# Altium schematic symbol library Schlib1.SchLib: 60 symbols
Pins are listed as number, name and electrical type; pins without a type are passive.

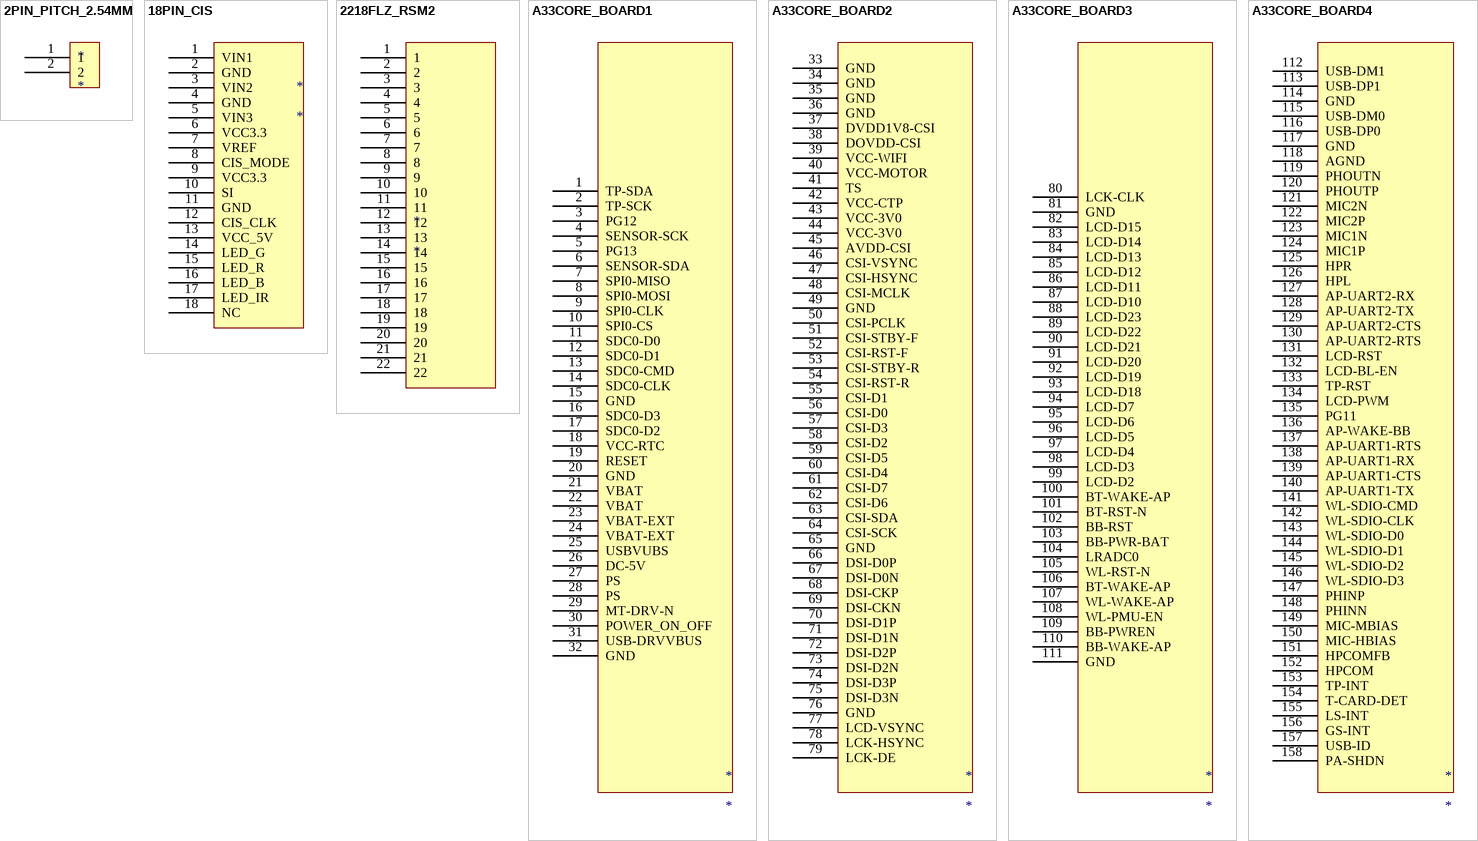
[diagram p0: symbols 2PIN_PITCH_2.54MM to A33CORE_BOARD4]

## 2PIN_PITCH_2.54MM
designator *
footprint 2PIN_PITCH_2.54MM
pins: 1, 2

## 18PIN_CIS
designator *
footprint 18PIN_FPC
pins: 1 VIN1, 2 GND, 3 VIN2, 4 GND, 5 VIN3, 6 VCC3.3, 7 VREF, 8 CIS_MODE, 9 VCC3.3, 10 SI, 11 GND, 12 CIS_CLK, 13 VCC_5V, 14 LED_G, 15 LED_R, 16 LED_B, 17 LED_IR, 18 NC

## 2218FLZ_RSM2
designator *
footprint 2218FLZ_RSM2
pins: 1, 2, 3, 4, 5, 6, 7, 8, 9, 10, 11, 12, 13, 14, 15, 16, 17, 18, 19, 20, 21, 22

## A33CORE_BOARD1
designator *
footprint A33CORE_BOARD1
pins: 1 TP-SDA, 2 TP-SCK, 3 PG12, 4 SENSOR-SCK, 5 PG13, 6 SENSOR-SDA, 7 SPI0-MISO, 8 SPI0-MOSI, 9 SPI0-CLK, 10 SPI0-CS, 11 SDC0-D0, 12 SDC0-D1, 13 SDC0-CMD, 14 SDC0-CLK, 15 GND, 16 SDC0-D3, 17 SDC0-D2, 18 VCC-RTC, 19 RESET, 20 GND, 21 VBAT, 22 VBAT, 23 VBAT-EXT, 24 VBAT-EXT, 25 USBVUBS, 26 DC-5V, 27 PS, 28 PS, 29 MT-DRV-N, 30 POWER_ON_OFF, 31 USB-DRVVBUS, 32 GND

## A33CORE_BOARD2
designator *
footprint A33CORE_BOARD2
pins: 33 GND, 34 GND, 35 GND, 36 GND, 37 DVDD1V8-CSI, 38 DOVDD-CSI, 39 VCC-WIFI, 40 VCC-MOTOR, 41 TS, 42 VCC-CTP, 43 VCC-3V0, 44 VCC-3V0, 45 AVDD-CSI, 46 CSI-VSYNC, 47 CSI-HSYNC, 48 CSI-MCLK, 49 GND, 50 CSI-PCLK, 51 CSI-STBY-F, 52 CSI-RST-F, 53 CSI-STBY-R, 54 CSI-RST-R, 55 CSI-D1, 56 CSI-D0, 57 CSI-D3, 58 CSI-D2, 59 CSI-D5, 60 CSI-D4, 61 CSI-D7, 62 CSI-D6, 63 CSI-SDA, 64 CSI-SCK, 65 GND, 66 DSI-D0P, 67 DSI-D0N, 68 DSI-CKP, 69 DSI-CKN, 70 DSI-D1P, 71 DSI-D1N, 72 DSI-D2P, 73 DSI-D2N, 74 DSI-D3P, 75 DSI-D3N, 76 GND, 77 LCD-VSYNC, 78 LCK-HSYNC, 79 LCK-DE

## A33CORE_BOARD3
designator *
footprint A33CORE_BOARD3
pins: 80 LCK-CLK, 81 GND, 82 LCD-D15, 83 LCD-D14, 84 LCD-D13, 85 LCD-D12, 86 LCD-D11, 87 LCD-D10, 88 LCD-D23, 89 LCD-D22, 90 LCD-D21, 91 LCD-D20, 92 LCD-D19, 93 LCD-D18, 94 LCD-D7, 95 LCD-D6, 96 LCD-D5, 97 LCD-D4, 98 LCD-D3, 99 LCD-D2, 100 BT-WAKE-AP, 101 BT-RST-N, 102 BB-RST, 103 BB-PWR-BAT, 104 LRADC0, 105 WL-RST-N, 106 BT-WAKE-AP, 107 WL-WAKE-AP, 108 WL-PMU-EN, 109 BB-PWREN, 110 BB-WAKE-AP, 111 GND

## A33CORE_BOARD4
designator *
footprint A33CORE_BOARD4
pins: 112 USB-DM1, 113 USB-DP1, 114 GND, 115 USB-DM0, 116 USB-DP0, 117 GND, 118 AGND, 119 PHOUTN, 120 PHOUTP, 121 MIC2N, 122 MIC2P, 123 MIC1N, 124 MIC1P, 125 HPR, 126 HPL, 127 AP-UART2-RX, 128 AP-UART2-TX, 129 AP-UART2-CTS, 130 AP-UART2-RTS, 131 LCD-RST, 132 LCD-BL-EN, 133 TP-RST, 134 LCD-PWM, 135 PG11, 136 AP-WAKE-BB, 137 AP-UART1-RTS, 138 AP-UART1-RX, 139 AP-UART1-CTS, 140 AP-UART1-TX, 141 WL-SDIO-CMD, 142 WL-SDIO-CLK, 143 WL-SDIO-D0, 144 WL-SDIO-D1, 145 WL-SDIO-D2, 146 WL-SDIO-D3, 147 PHINP, 148 PHINN, 149 MIC-MBIAS, 150 MIC-HBIAS, 151 HPCOMFB, 152 HPCOM, 153 TP-INT, 154 T-CARD-DET, 155 LS-INT, 156 GS-INT, 157 USB-ID, 158 PA-SHDN

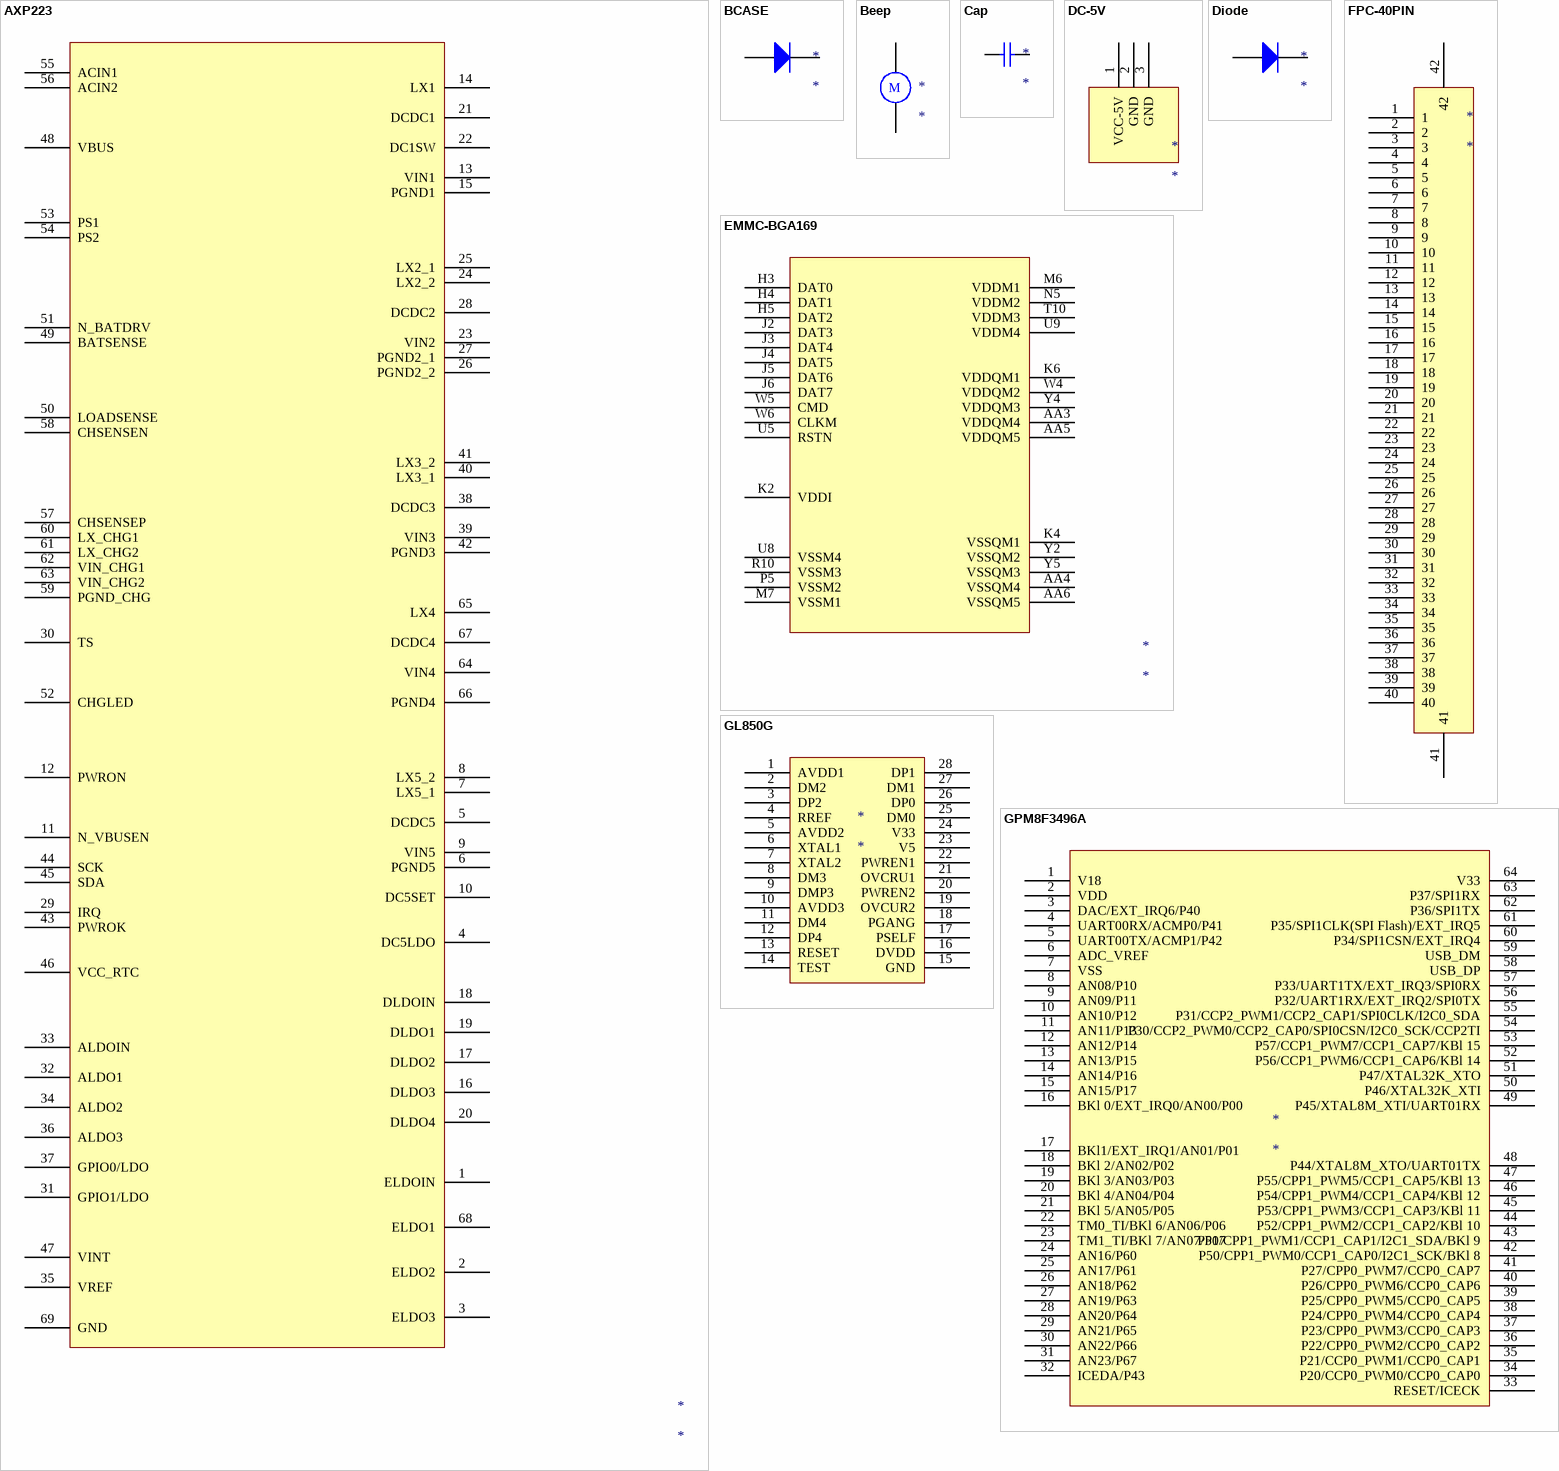
[diagram p1: symbols AXP223 to GPM8F3496A]

## AXP223
designator *
footprint AXP223
pins: 1 ELDOIN, 2 ELDO2, 3 ELDO3, 4 DC5LDO, 5 DCDC5, 6 PGND5, 7 LX5_1, 8 LX5_2, 9 VIN5, 10 DC5SET, 11 N_VBUSEN, 12 PWRON, 13 VIN1, 14 LX1, 15 PGND1, 16 DLDO3, 17 DLDO2, 18 DLDOIN, 19 DLDO1, 20 DLDO4, 21 DCDC1, 22 DC1SW, 23 VIN2, 24 LX2_2, 25 LX2_1, 26 PGND2_2, 27 PGND2_1, 28 DCDC2, 29 IRQ, 30 TS, 31 GPIO1/LDO, 32 ALDO1, 33 ALDOIN, 34 ALDO2, 35 VREF, 36 ALDO3, 37 GPIO0/LDO, 38 DCDC3, 39 VIN3, 40 LX3_1, 41 LX3_2, 42 PGND3, 43 PWROK, 44 SCK, 45 SDA, 46 VCC_RTC, 47 VINT, 48 VBUS, 49 BATSENSE, 50 LOADSENSE, 51 N_BATDRV, 52 CHGLED, 53 PS1, 54 PS2, 55 ACIN1, 56 ACIN2, 57 CHSENSEP, 58 CHSENSEN, 59 PGND_CHG, 60 LX_CHG1, 61 LX_CHG2, 62 VIN_CHG1, 63 VIN_CHG2, 64 VIN4, 65 LX4, 66 PGND4, 67 DCDC4, 68 ELDO1, 69 GND

## BCASE
designator *
footprint BCASE
pins: 1 A, 2 K

## Beep
designator *
footprint Beep
pins: 1, 2
text: M

## Cap
designator *
footprint C0402 (CAP)
footprint C0603
footprint C0805
footprint C1206
footprint 3126A
footprint 1210
footprint 电解电容5*8
footprint 电解电容6*12
footprint 电解电容8*13
pins: 1, 2

## DC-5V
designator *
footprint DC-5V
pins: 1 VCC-5V, 2 GND, 3 GND

## Diode
designator *
footprint 0603A
pins: 1 A, 2 K

## EMMC-BGA169
designator *
footprint EMMC_BGA169
pins: AA3 VDDQM4, AA4 VSSQM4, AA5 VDDQM5, AA6 VSSQM5, H3 DAT0, H4 DAT1, H5 DAT2, J2 DAT3, J3 DAT4, J4 DAT5, J5 DAT6, J6 DAT7, K2 VDDI, K4 VSSQM1, K6 VDDQM1, M6 VDDM1, M7 VSSM1, N5 VDDM2, P5 VSSM2, R10 VSSM3, T10 VDDM3, U5 RSTN, U8 VSSM4, U9 VDDM4, W4 VDDQM2, W5 CMD, W6 CLKM, Y2 VSSQM2, Y4 VDDQM3, Y5 VSSQM3

## FPC-40PIN
designator *
footprint FPC-40PIN
pins: 1, 2, 3, 4, 5, 6, 7, 8, 9, 10, 11, 12, 13, 14, 15, 16, 17, 18, 19, 20, 21, 22, 23, 24, 25, 26, 27, 28, 29, 30, 31, 32, 33, 34, 35, 36, 37, 38, 39, 40, 41, 42

## GL850G
designator *
footprint GL850G (SSOP-28)
pins: 1 AVDD1, 2 DM2, 3 DP2, 4 RREF, 5 AVDD2, 6 XTAL1, 7 XTAL2, 8 DM3, 9 DMP3, 10 AVDD3, 11 DM4, 12 DP4, 13 RESET, 14 TEST, 15 GND, 16 DVDD, 17 PSELF, 18 PGANG, 19 OVCUR2, 20 PWREN2, 21 OVCRU1, 22 PWREN1, 23 V5, 24 V33, 25 DM0, 26 DP0, 27 DM1, 28 DP1

## GPM8F3496A
designator *
footprint GPM8F3496A LQFP64
pins: 1 V18, 2 VDD, 3 DAC/EXT_IRQ6/P40, 4 UART00RX/ACMP0/P41, 5 UART00TX/ACMP1/P42, 6 ADC_VREF, 7 VSS, 8 AN08/P10, 9 AN09/P11, 10 AN10/P12, 11 AN11/P13, 12 AN12/P14, 13 AN13/P15, 14 AN14/P16, 15 AN15/P17, 16 BKl 0/EXT_IRQ0/AN00/P00, 17 BKl1/EXT_IRQ1/AN01/P01, 18 BKl 2/AN02/P02, 19 BKl 3/AN03/P03, 20 BKl 4/AN04/P04, 21 BKl 5/AN05/P05, 22 TM0_TI/BKl 6/AN06/P06, 23 TM1_TI/BKl 7/AN07/P07, 24 AN16/P60, 25 AN17/P61, 26 AN18/P62, 27 AN19/P63, 28 AN20/P64, 29 AN21/P65, 30 AN22/P66, 31 AN23/P67, 32 ICEDA/P43, 33 RESET/ICECK, 34 P20/CCP0_PWM0/CCP0_CAP0, 35 P21/CCP0_PWM1/CCP0_CAP1, 36 P22/CPP0_PWM2/CCP0_CAP2, 37 P23/CPP0_PWM3/CCP0_CAP3, 38 P24/CPP0_PWM4/CCP0_CAP4, 39 P25/CPP0_PWM5/CCP0_CAP5, 40 P26/CPP0_PWM6/CCP0_CAP6, 41 P27/CPP0_PWM7/CCP0_CAP7, 42 P50/CPP1_PWM0/CCP1_CAP0/I2C1_SCK/BKl 8, 43 P51/CPP1_PWM1/CCP1_CAP1/I2C1_SDA/BKl 9, 44 P52/CPP1_PWM2/CCP1_CAP2/KBl 10, 45 P53/CPP1_PWM3/CCP1_CAP3/KBl 11, 46 P54/CPP1_PWM4/CCP1_CAP4/KBl 12, 47 P55/CPP1_PWM5/CCP1_CAP5/KBl 13, 48 P44/XTAL8M_XTO/UART01TX, 49 P45/XTAL8M_XTI/UART01RX, 50 P46/XTAL32K_XTI, 51 P47/XTAL32K_XTO, 52 P56/CCP1_PWM6/CCP1_CAP6/KBl 14, 53 P57/CCP1_PWM7/CCP1_CAP7/KBl 15, 54 P30/CCP2_PWM0/CCP2_CAP0/SPI0CSN/I2C0_SCK/CCP2TI, 55 P31/CCP2_PWM1/CCP2_CAP1/SPI0CLK/I2C0_SDA, 56 P32/UART1RX/EXT_IRQ2/SPI0TX, 57 P33/UART1TX/EXT_IRQ3/SPI0RX, 58 USB_DP, 59 USB_DM, 60 P34/SPI1CSN/EXT_IRQ4, 61 P35/SPI1CLK(SPI Flash)/EXT_IRQ5, 62 P36/SPI1TX, 63 P37/SPI1RX, 64 V33

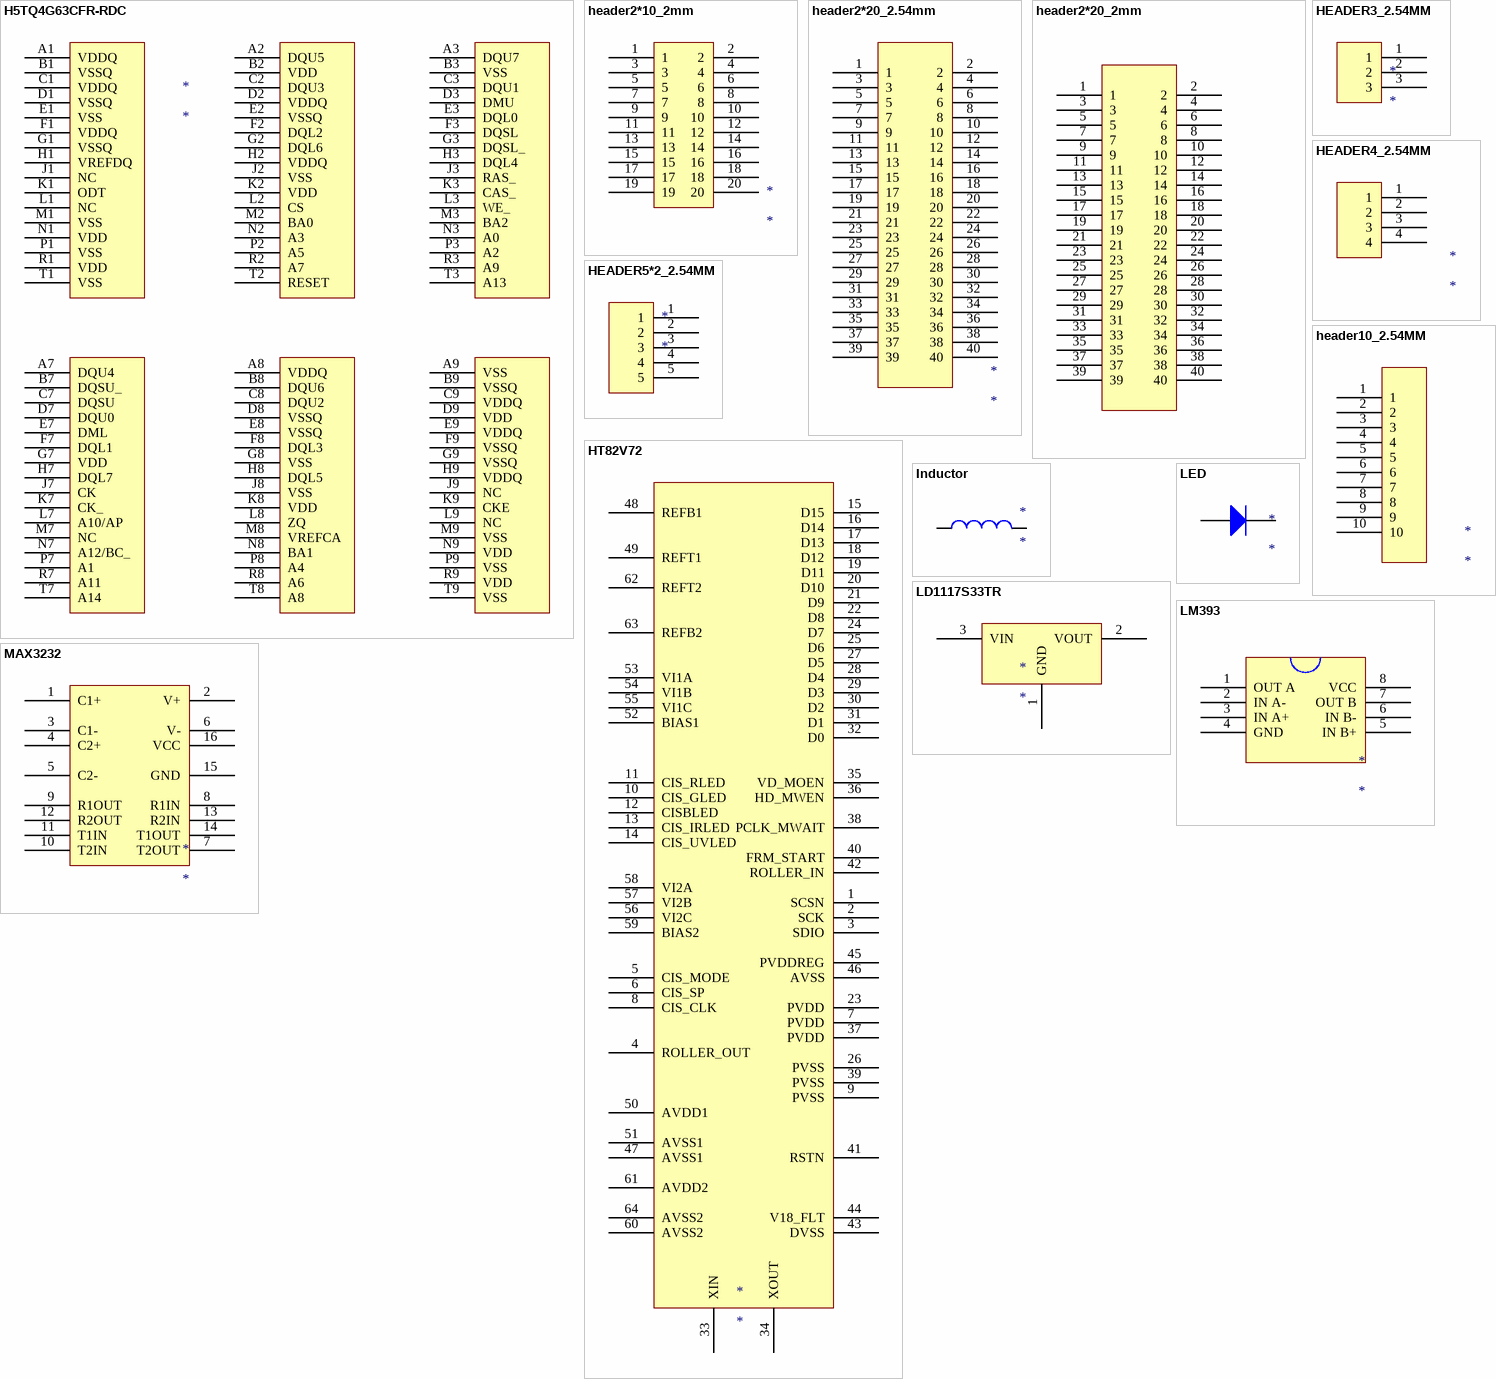
[diagram p2: symbols H5TQ4G63CFR-RDC to MAX3232]

## H5TQ4G63CFR-RDC
designator *
footprint DDR3-FBGA96
pins: A1 VDDQ, A2 DQU5, A3 DQU7, A7 DQU4, A8 VDDQ, A9 VSS, B1 VSSQ, B2 VDD, B3 VSS, B7 DQSU_, B8 DQU6, B9 VSSQ, C1 VDDQ, C2 DQU3, C3 DQU1, C7 DQSU, C8 DQU2, C9 VDDQ, D1 VSSQ, D2 VDDQ, D3 DMU, D7 DQU0, D8 VSSQ, D9 VDD, E1 VSS, E2 VSSQ, E3 DQL0, E7 DML, E8 VSSQ, E9 VDDQ, F1 VDDQ, F2 DQL2, F3 DQSL, F7 DQL1, F8 DQL3, F9 VSSQ, G1 VSSQ, G2 DQL6, G3 DQSL_, G7 VDD, G8 VSS, G9 VSSQ, H1 VREFDQ, H2 VDDQ, H3 DQL4, H7 DQL7, H8 DQL5, H9 VDDQ, J1 NC, J2 VSS, J3 RAS_, J7 CK, J8 VSS, J9 NC, K1 ODT, K2 VDD, K3 CAS_, K7 CK_, K8 VDD, K9 CKE, L1 NC, L2 CS, L3 WE_, L7 A10/AP, L8 ZQ, L9 NC, M1 VSS, M2 BA0, M3 BA2, M7 NC, M8 VREFCA, M9 VSS, N1 VDD, N2 A3, N3 A0, N7 A12/BC_, N8 BA1, N9 VDD, P1 VSS, P2 A5, P3 A2, P7 A1, P8 A4, P9 VSS, R1 VDD, R2 A7, R3 A9, R7 A11, R8 A6, R9 VDD, T1 VSS, T2 RESET, T3 A13, T7 A14, T8 A8, T9 VSS

## header2*10_2mm
designator *
footprint header2*10_2mm (header)
pins: 1, 2, 3, 4, 5, 6, 7, 8, 9, 10, 11, 12, 13, 14, 15, 16, 17, 18, 19, 20

## header2*20_2.54mm
designator *
footprint header2*20_2.54mm
pins: 1, 2, 3, 4, 5, 6, 7, 8, 9, 10, 11, 12, 13, 14, 15, 16, 17, 18, 19, 20, 21, 22, 23, 24, 25, 26, 27, 28, 29, 30, 31, 32, 33, 34, 35, 36, 37, 38, 39, 40

## header2*20_2mm
designator *
footprint header2*20_2mm
pins: 1, 2, 3, 4, 5, 6, 7, 8, 9, 10, 11, 12, 13, 14, 15, 16, 17, 18, 19, 20, 21, 22, 23, 24, 25, 26, 27, 28, 29, 30, 31, 32, 33, 34, 35, 36, 37, 38, 39, 40

## HEADER3_2.54MM
designator *
footprint HEADER3_2.54MM
pins: 1, 2, 3

## HEADER4_2.54MM
designator *
footprint HEADER4_2.54MM
pins: 1, 2, 3, 4

## HEADER5*2_2.54MM
designator *
footprint HEADER5_2.54MM
pins: 1, 2, 3, 4, 5

## header10_2.54MM
designator *
footprint HEADER10_2.54MM
pins: 1, 2, 3, 4, 5, 6, 7, 8, 9, 10

## HT82V72
designator *
footprint HT82V72
pins: 1 SCSN, 2 SCK, 3 SDIO, 4 ROLLER_OUT, 5 CIS_MODE, 6 CIS_SP, 7 PVDD, 8 CIS_CLK, 9 PVSS, 10 CIS_GLED, 11 CIS_RLED, 12 CISBLED, 13 CIS_IRLED, 14 CIS_UVLED, 15 D15, 16 D14, 17 D13, 18 D12, 19 D11, 20 D10, 21 D9, 22 D8, 23 PVDD, 24 D7, 25 D6, 26 PVSS, 27 D5, 28 D4, 29 D3, 30 D2, 31 D1, 32 D0, 33 XIN, 34 XOUT, 35 VD_MOEN, 36 HD_MWEN, 37 PVDD, 38 PCLK_MWAIT, 39 PVSS, 40 FRM_START, 41 RSTN, 42 ROLLER_IN, 43 DVSS, 44 V18_FLT, 45 PVDDREG, 46 AVSS, 47 AVSS1, 48 REFB1, 49 REFT1, 50 AVDD1, 51 AVSS1, 52 BIAS1, 53 VI1A, 54 VI1B, 55 VI1C, 56 VI2C, 57 VI2B, 58 VI2A, 59 BIAS2, 60 AVSS2, 61 AVDD2, 62 REFT2, 63 REFB2, 64 AVSS2

## Inductor
designator *
footprint NR4018
pins: 1, 2

## LD1117S33TR
designator *
SOT-223
footprint LD1117S33TR (SOT-223)
pins: 1 GND, 2 VOUT, 3 VIN

## LED
designator *
footprint LED_0603
pins: 1 A, 2 K

## LM393
designator *
footprint LM393
pins: 1 OUT A, 2 IN A-, 3 IN A+, 4 GND, 5 IN B+, 6 IN B-, 7 OUT B, 8 VCC

## MAX3232
designator *
pins: 1 C1+, 2 V+, 3 C1-, 4 C2+, 5 C2-, 6 V-, 7 T2OUT, 8 R1IN, 9 R1OUT, 10 T2IN, 11 T1IN, 12 R2OUT, 13 R2IN, 14 T1OUT, 15 GND, 16 VCC

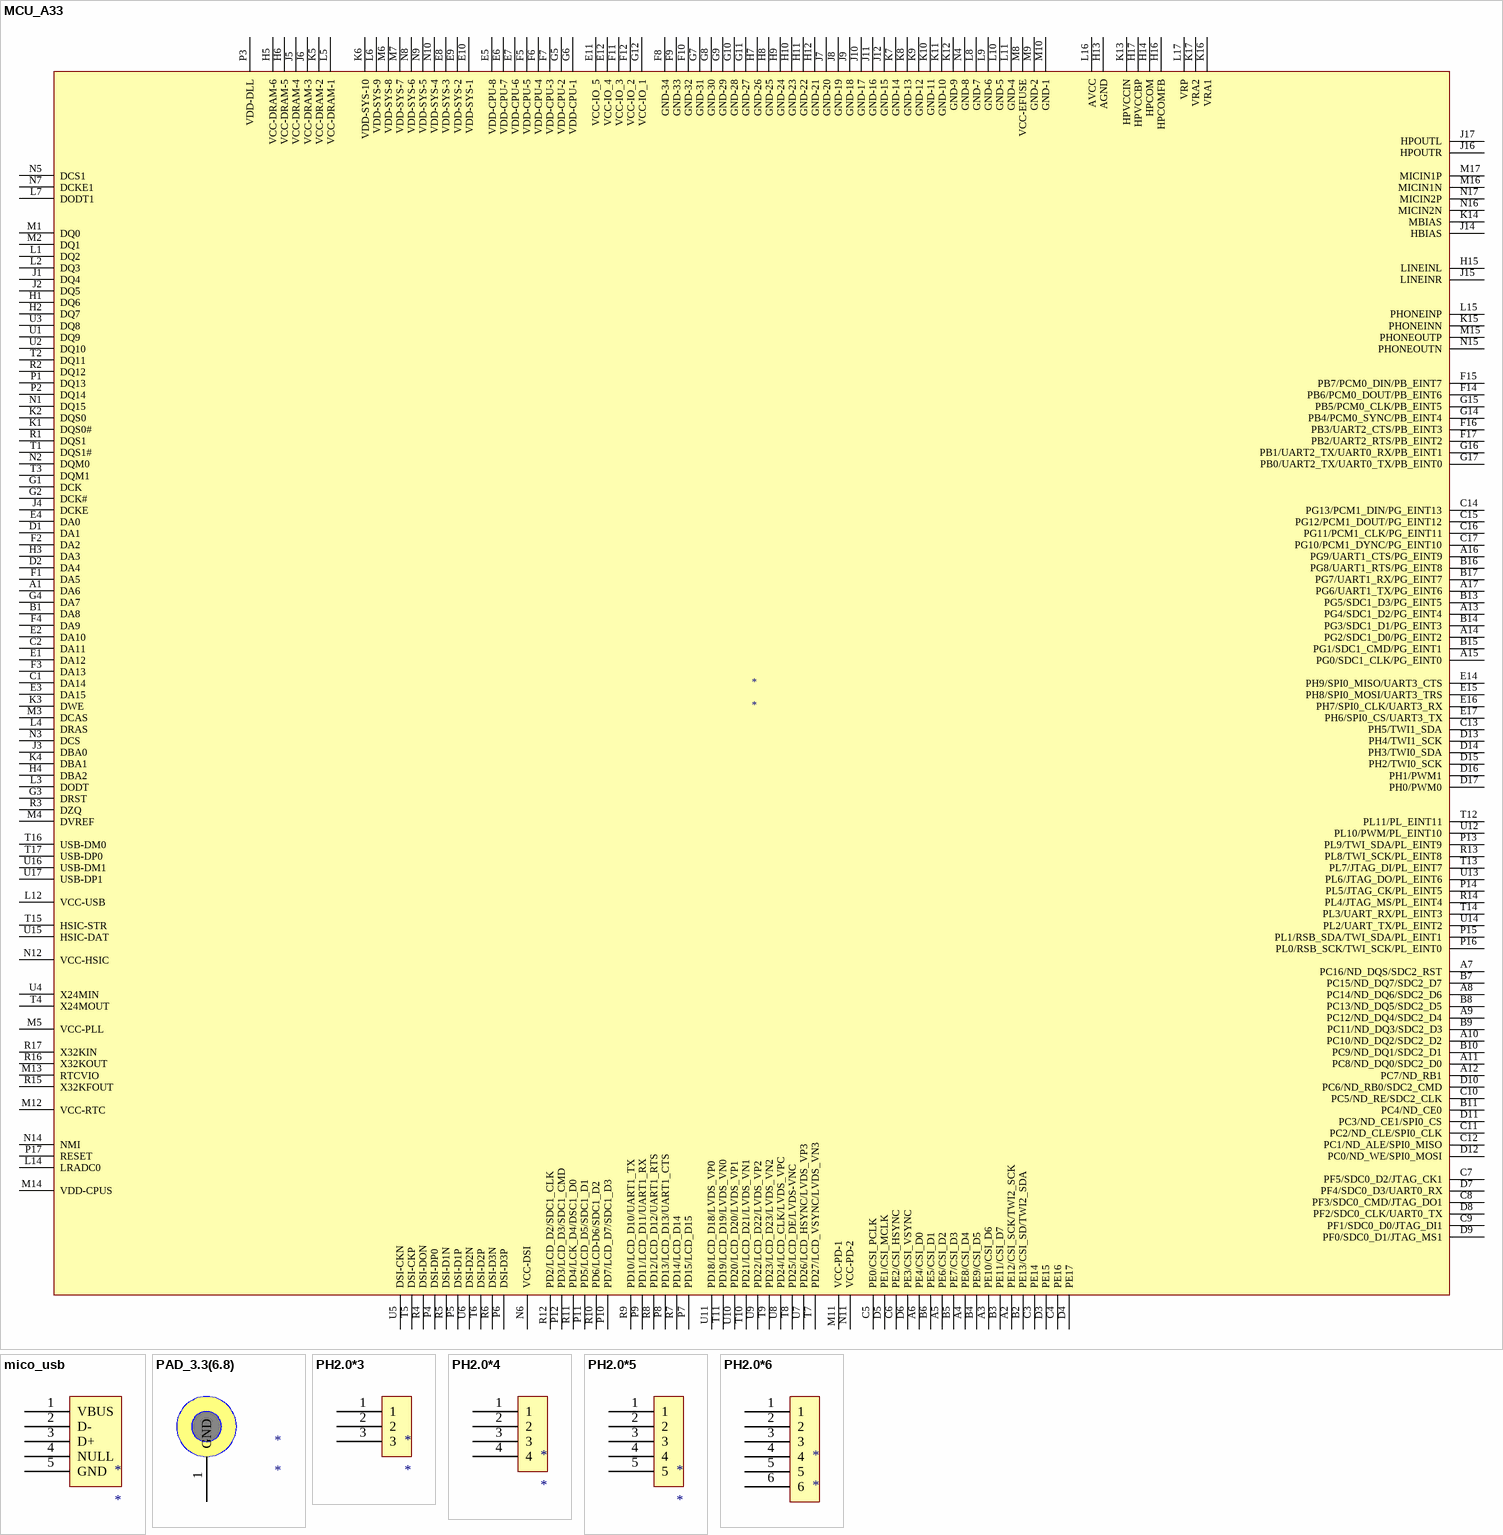
[diagram p3: symbols MCU_A33 to PH2.0*6]

## MCU_A33
designator *
footprint MCU_A33
pins: A1 DA6, A2 PE12/CSI_SCK/TWI2_SCK, A3 PE10/CSI_D6, A4 PE8/CSI_D4, A5 PE6/CSI_D2, A6 PE4/CSI_D0, A7 PC16/ND_DQS/SDC2_RST, A8 PC14/ND_DQ6/SDC2_D6, A9 PC12/ND_DQ4/SDC2_D4, A10 PC10/ND_DQ2/SDC2_D2, A11 PC8/ND_DQ0/SDC2_D0, A12 PC7/ND_RB1, A13 PG4/SDC1_D2/PG_EINT4, A14 PG2/SDC1_D0/PG_EINT2, A15 PG0/SDC1_CLK/PG_EINT0, A16 PG9/UART1_CTS/PG_EINT9, A17 PG6/UART1_TX/PG_EINT6, B1 DA8, B2 PE13/CSI_SD/TWI2_SDA, B3 PE11/CSI_D7, B4 PE9/CSI_D5, B5 PE7/CSI_D3, B6 PE5/CSI_D1, B7 PC15/ND_DQ7/SDC2_D7, B8 PC13/ND_DQ5/SDC2_D5, B9 PC11/ND_DQ3/SDC2_D3, B10 PC9/ND_DQ1/SDC2_D1, B11 PC4/ND_CE0, B13 PG5/SDC1_D3/PG_EINT5, B14 PG3/SDC1_D1/PG_EINT3, B15 PG1/SDC1_CMD/PG_EINT1, B16 PG8/UART1_RTS/PG_EINT8, B17 PG7/UART1_RX/PG_EINT7, C1 DA14, C2 DA11, C3 PE14, C4 PE16, C5 PE0/CSI_PCLK, C6 PE2/CSI_HSYNC, C7 PF5/SDC0_D2/JTAG_CK1, C8 PF3/SDC0_CMD/JTAG_DO1, C9 PF1/SDC0_D0/JTAG_DI1, C10 PC5/ND_RE/SDC2_CLK, C11 PC2/ND_CLE/SPI0_CLK, C12 PC1/ND_ALE/SPI0_MISO, C13 PH5/TWI1_SDA, C14 PG13/PCM1_DIN/PG_EINT13, C15 PG12/PCM1_DOUT/PG_EINT12, C16 PG11/PCM1_CLK/PG_EINT11, C17 PG10/PCM1_DYNC/PG_EINT10, D1 DA1, D2 DA4, D3 PE15, D4 PE17, D5 PE1/CSI_MCLK, D6 PE3/CSI_VSYNC, D7 PF4/SDC0_D3/UART0_RX, D8 PF2/SDC0_CLK/UART0_TX, D9 PF0/SDC0_D1/JTAG_MS1, D10 PC6/ND_RB0/SDC2_CMD, D11 PC3/ND_CE1/SPI0_CS, D12 PC0/ND_WE/SPI0_MOSI, D13 PH4/TWI1_SCK, D14 PH3/TWI0_SDA, D15 PH2/TWI0_SCK, D16 PH1/PWM1, D17 PH0/PWM0, E1 DA12, E2 DA10, E3 DA15, E4 DA0, E5 VDD-CPU-8, E6 VDD-CPU-7, E7 VDD-CPU-6, E8 VDD-SYS-3, E9 VDD-SYS-2, E10 VDD-SYS-1, E11 VCC-IO_5, E12 VCC-IO_4, E14 PH9/SPI0_MISO/UART3_CTS, E15 PH8/SPI0_MOSI/UART3_TRS, E16 PH7/SPI0_CLK/UART3_RX, E17 PH6/SPI0_CS/UART3_TX, F1 DA5, F2 DA2, F3 DA13, F4 DA9, F5 VDD-CPU-5, F6 VDD-CPU-4, F7 VDD-CPU-3, F8 GND-34, F9 GND-33, F10 GND-32, F11 VCC-IO_3, F12 VCC-IO_2, F14 PB6/PCM0_DOUT/PB_EINT6, F15 PB7/PCM0_DIN/PB_EINT7, F16 PB3/UART2_CTS/PB_EINT3, F17 PB2/UART2_RTS/PB_EINT2, G1 DCK, G2 DCK#, G3 DRST, G4 DA7, G5 VDD-CPU-2, G6 VDD-CPU-1, G7 GND-31, G8 GND-30, G9 GND-29, G10 GND-28, G11 GND-27, G12 VCC-IO_1, G14 PB4/PCM0_SYNC/PB_EINT4, G15 PB5/PCM0_CLK/PB_EINT5, G16 PB1/UART2_TX/UART0_RX/PB_EINT1, G17 PB0/UART2_TX/UART0_TX/PB_EINT0, H1 DQ6, H2 DQ7, H3 DA3, H4 DBA2, H5 VCC-DRAM-6, H6 VCC-DRAM-5, H7 GND-26, H8 GND-25, H9 GND-24, H10 GND-23, H11 GND-22, H12 GND-21, H13 AGND, H14 HPCOM, H15 LINEINL, H16 HPCOMFB, H17 HPVCCBP, J1 DQ4, J2 DQ5, J3 DBA0, J4 DCKE, J5 VCC-DRAM-4, J6 VCC-DRAM-3, J7 GND-20, J8 GND-19, J9 GND-18, J10 GND-17, J11 GND-16, J12 GND-15, J14 HBIAS, J15 LINEINR, J16 HPOUTR, J17 HPOUTL, K1 DQS0#, K2 DQS0, K3 DWE, K4 DBA1, K5 VCC-DRAM-2, K6 VDD-SYS-10, K7 GND-14, K8 GND-13, K9 GND-12, K10 GND-11, K11 GND-10, K12 GND-9, K13 HPVCCIN, K14 MBIAS, K15 PHONEINN, K16 VRA1, K17 VRA2, L1 DQ2, L2 DQ3, L3 DODT, L4 DRAS, L5 VCC-DRAM-1, L6 VDD-SYS-9, L7 DODT1, L8 GND-7, L9 GND-6, L10 GND-5, L11 GND-4, L12 VCC-USB, L14 LRADC0, L15 PHONEINP, L16 AVCC, L17 VRP, M1 DQ0, M2 DQ1, M3 DCAS, M4 DVREF, M5 VCC-PLL, M6 VDD-SYS-8, M7 VDD-SYS-7, M8 VCC-EFUSE, M9 GND-2, M10 GND-1, M11 VCC-PD-1, M12 VCC-RTC, M13 RTCVIO, M14 VDD-CPUS, M15 PHONEOUTP, M16 MICIN1N, M17 MICIN1P, N1 DQ15, N2 DQM0, N3 DCS, N4 GND-8, N5 DCS1, N6 VCC-DSI, N7 DCKE1, N8 VDD-SYS-6, N9 VDD-SYS-5, N10 VDD-SYS-4, N11 VCC-PD-2, N12 VCC-HSIC, N14 NMI, N15 PHONEOUTN, N16 MICIN2N, N17 MICIN2P, P1 DQ13, P2 DQ14, P3 VDD-DLL, P4 DSI-DP0, P5 DSI-D1P, P6 DSI-D3P, P7 PD15/LCD_D15, P8 PD13/LCD_D13/UART1_CTS, P9 PD11/LCD_D11/UART1_RX, P10 PD7/LCD_D7/SDC1_D3, P11 PD5/LCD_D5/SDC1_D1, P12 PD3/LCD_D3/SDC1_CMD, P13 PL9/TWI_SDA/PL_EINT9, P14 PL5/JTAG_CK/PL_EINT5, P15 PL1/RSB_SDA/TWI_SDA/PL_EINT1, P16 PL0/RSB_SCK/TWI_SCK/PL_EINT0, P17 RESET, R1 DQS1, R2 DQ12, R3 DZQ, R4 DSI-DON, R5 DSI-D1N, R6 DSI-D3N, R7 PD14/LCD_D14, R8 PD12/LCD_D12/UART1_RTS, R9 PD10/LCD_D10/UART1_TX, R10 PD6/LCD-D6/SDC1_D2, R11 PD4/LCK_D4/DSC1_D0, R12 PD2/LCD_D2/SDC1_CLK, R13 PL8/TWI_SCK/PL_EINT8, R14 PL4/JTAG_MS/PL_EINT4, R15 X32KFOUT, R16 X32KOUT, R17 X32KIN, T1 DQS1#, T2 DQ11, T3 DQM1, T4 X24MOUT, T5 DSI-CKP, T6 DSI-D2P, T7 PD27/LCD_VSYNC/LVDS_VN3, T8 PD25/LCD_DE/LVDS-VNC, T9 PD23/LCD_D23/LVDS_VN2, T10 PD21/LCD_D21/LVDS_VN1, T11 PD19/LCD_D19/LVDS_VN0, T12 PL11/PL_EINT11, T13 PL7/JTAG_DI/PL_EINT7, T14 PL3/UART_RX/PL_EINT3, T15 HSIC-STR, T16 USB-DM0, T17 USB-DP0, U1 DQ9, U2 DQ10, U3 DQ8, U4 X24MIN, U5 DSI-CKN, U6 DSI-D2N, U7 PD26/LCD_HSYNC/LVDS_VP3, U8 PD24/LCD_CLK/LVDS_VPC, U9 PD22/LCD_D22/LVDS_VP2, U10 PD20/LCD_D20/LVDS_VP1, U11 PD18/LCD_D18/LVDS_VP0, U12 PL10/PWM/PL_EINT10, U13 PL6/JTAG_DO/PL_EINT6, U14 PL2/UART_TX/PL_EINT2, U15 HSIC-DAT, U16 USB-DM1, U17 USB-DP1

## mico_usb
designator *
footprint mico_usb
pins: 1 VBUS, 2 D-, 3 D+, 4 NULL, 5 GND

## PAD_3.3(6.8)
designator *
footprint PAD_3.3(6.8)
pins: 1 GND

## PH2.0*3
designator *
footprint PH2.0*3
pins: 1, 2, 3

## PH2.0*4
designator *
footprint PH2.0*4
pins: 1, 2, 3, 4

## PH2.0*5
designator *
footprint PH2.0*5
pins: 1, 2, 3, 4, 5

## PH2.0*6
designator *
footprint PH2.0*6
pins: 1, 2, 3, 4, 5, 6

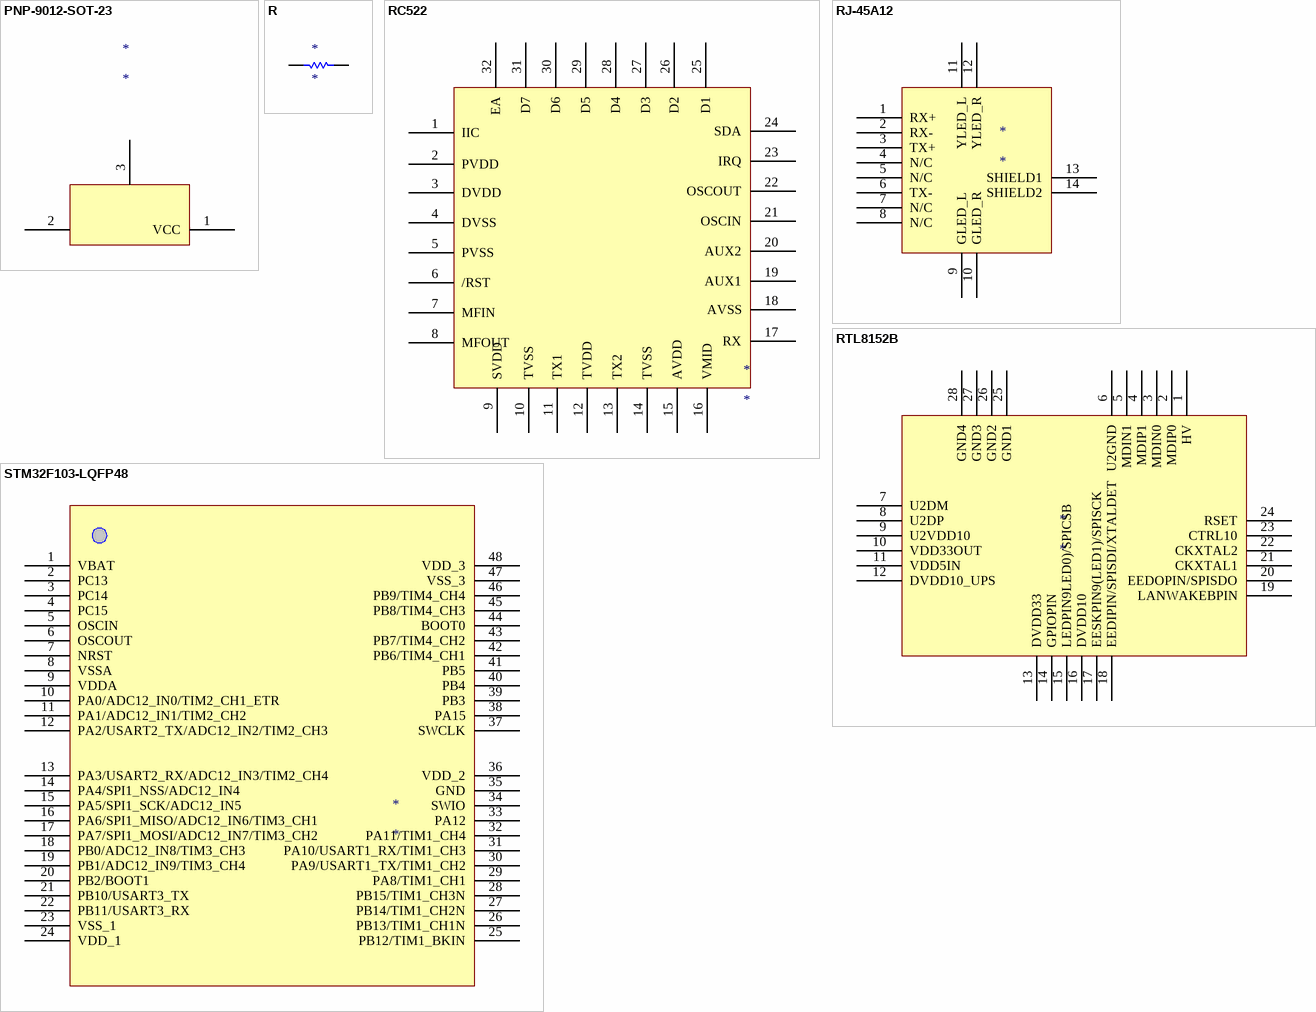
[diagram p4: symbols PNP-9012-SOT-23 to STM32F103-LQFP48]

## PNP-9012-SOT-23
designator *
footprint PNP-SOT-23
pins: 1 VCC, 2, 3

## R
designator *
footprint R0402
footprint R0603
footprint R1206
footprint 0603A
footprint 0603ABA
footprint 0603CA
footprint R0805
pins: 1, 2

## RC522
designator *
footprint HVQFN32
pins: 1 IIC, 2 PVDD, 3 DVDD, 4 DVSS, 5 PVSS, 6 /RST, 7 MFIN, 8 MFOUT, 9 SVDD, 10 TVSS, 11 TX1, 12 TVDD, 13 TX2, 14 TVSS, 15 AVDD, 16 VMID, 17 RX, 18 AVSS, 19 AUX1, 20 AUX2, 21 OSCIN, 22 OSCOUT, 23 IRQ, 24 SDA, 25 D1, 26 D2, 27 D3, 28 D4, 29 D5, 30 D6, 31 D7, 32 EA

## RJ-45A12
designator *
footprint RJ-45A12
pins: 1 RX+, 2 RX-, 3 TX+, 4 N/C, 5 N/C, 6 TX-, 7 N/C, 8 N/C, 9 GLED_L, 10 GLED_R, 11 YLED_L, 12 YLED_R, 13 SHIELD1, 14 SHIELD2

## RTL8152B
designator *
footprint RTL8723BS
pins: 1 HV, 2 MDIP0, 3 MDIN0, 4 MDIP1, 5 MDIN1, 6 U2GND, 7 U2DM, 8 U2DP, 9 U2VDD10, 10 VDD33OUT, 11 VDD5IN, 12 DVDD10_UPS, 13 DVDD33, 14 GPIOPIN, 15 LEDPIN9LED0)/SPICSB, 16 DVDD10, 17 EESKPIN9(LED1)/SPISCK, 18 EEDIPIN/SPISDI/XTALDET, 19 LANWAKEBPIN, 20 EEDOPIN/SPISDO, 21 CKXTAL1, 22 CKXTAL2, 23 CTRL10, 24 RSET, 25 GND1, 26 GND2, 27 GND3, 28 GND4

## STM32F103-LQFP48
designator *
footprint STM32F103_48P
pins: 1 VBAT, 2 PC13, 3 PC14, 4 PC15, 5 OSCIN, 6 OSCOUT, 7 NRST, 8 VSSA, 9 VDDA, 10 PA0/ADC12_IN0/TIM2_CH1_ETR, 11 PA1/ADC12_IN1/TIM2_CH2, 12 PA2/USART2_TX/ADC12_IN2/TIM2_CH3, 13 PA3/USART2_RX/ADC12_IN3/TIM2_CH4, 14 PA4/SPI1_NSS/ADC12_IN4, 15 PA5/SPI1_SCK/ADC12_IN5, 16 PA6/SPI1_MISO/ADC12_IN6/TIM3_CH1, 17 PA7/SPI1_MOSI/ADC12_IN7/TIM3_CH2, 18 PB0/ADC12_IN8/TIM3_CH3, 19 PB1/ADC12_IN9/TIM3_CH4, 20 PB2/BOOT1, 21 PB10/USART3_TX, 22 PB11/USART3_RX, 23 VSS_1, 24 VDD_1, 25 PB12/TIM1_BKIN, 26 PB13/TIM1_CH1N, 27 PB14/TIM1_CH2N, 28 PB15/TIM1_CH3N, 29 PA8/TIM1_CH1, 30 PA9/USART1_TX/TIM1_CH2, 31 PA10/USART1_RX/TIM1_CH3, 32 PA11/TIM1_CH4, 33 PA12, 34 SWIO, 35 GND, 36 VDD_2, 37 SWCLK, 38 PA15, 39 PB3, 40 PB4, 41 PB5, 42 PB6/TIM4_CH1, 43 PB7/TIM4_CH2, 44 BOOT0, 45 PB8/TIM4_CH3, 46 PB9/TIM4_CH4, 47 VSS_3, 48 VDD_3

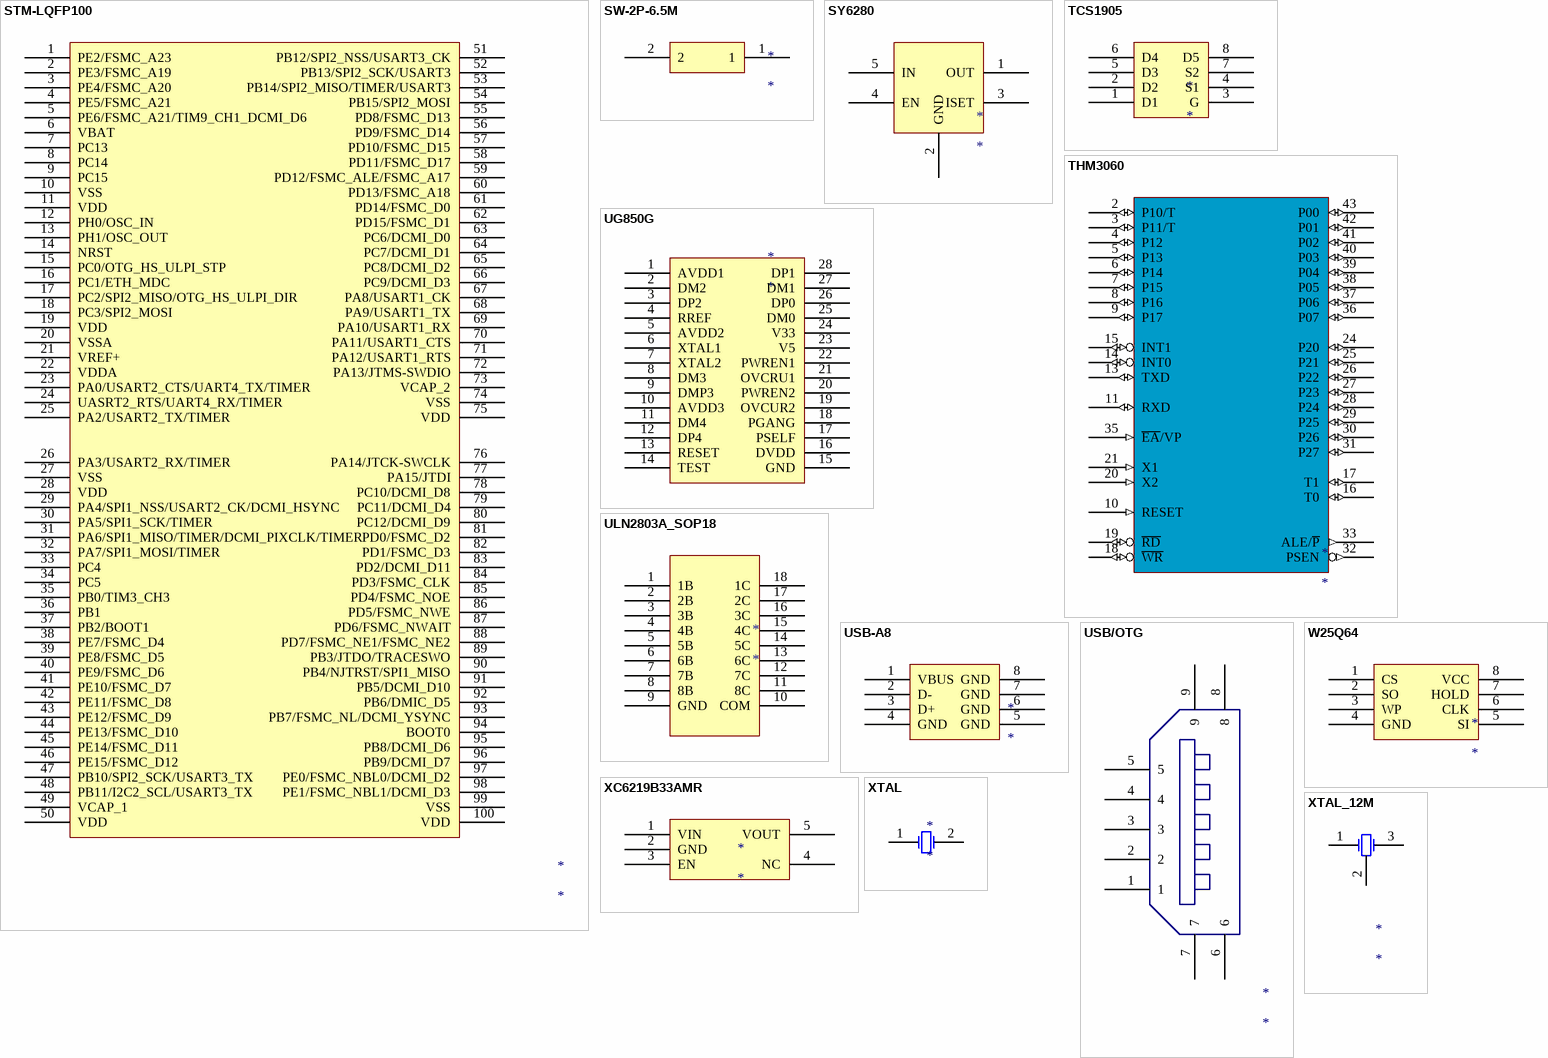
[diagram p5: symbols STM-LQFP100 to XTAL_12M]

## STM-LQFP100
designator *
footprint STM-LQFP100_N (Thin QFP, 100-Leads, Body 14x14mm, Pitch 0.5mm, IPC Medium Density)
pins: 1 PE2/FSMC_A23, 2 PE3/FSMC_A19, 3 PE4/FSMC_A20, 4 PE5/FSMC_A21, 5 PE6/FSMC_A21/TIM9_CH1_DCMI_D6, 6 VBAT, 7 PC13, 8 PC14, 9 PC15, 10 VSS, 11 VDD, 12 PH0/OSC_IN, 13 PH1/OSC_OUT, 14 NRST, 15 PC0/OTG_HS_ULPI_STP, 16 PC1/ETH_MDC, 17 PC2/SPI2_MISO/OTG_HS_ULPI_DIR, 18 PC3/SPI2_MOSI, 19 VDD, 20 VSSA, 21 VREF+, 22 VDDA, 23 PA0/USART2_CTS/UART4_TX/TIMER, 24 UASRT2_RTS/UART4_RX/TIMER, 25 PA2/USART2_TX/TIMER, 26 PA3/USART2_RX/TIMER, 27 VSS, 28 VDD, 29 PA4/SPI1_NSS/USART2_CK/DCMI_HSYNC, 30 PA5/SPI1_SCK/TIMER, 31 PA6/SPI1_MISO/TIMER/DCMI_PIXCLK/TIMER, 32 PA7/SPI1_MOSI/TIMER, 33 PC4, 34 PC5, 35 PB0/TIM3_CH3, 36 PB1, 37 PB2/BOOT1, 38 PE7/FSMC_D4, 39 PE8/FSMC_D5, 40 PE9/FSMC_D6, 41 PE10/FSMC_D7, 42 PE11/FSMC_D8, 43 PE12/FSMC_D9, 44 PE13/FSMC_D10, 45 PE14/FSMC_D11, 46 PE15/FSMC_D12, 47 PB10/SPI2_SCK/USART3_TX, 48 PB11/I2C2_SCL/USART3_TX, 49 VCAP_1, 50 VDD, 51 PB12/SPI2_NSS/USART3_CK, 52 PB13/SPI2_SCK/USART3, 53 PB14/SPI2_MISO/TIMER/USART3, 54 PB15/SPI2_MOSI, 55 PD8/FSMC_D13, 56 PD9/FSMC_D14, 57 PD10/FSMC_D15, 58 PD11/FSMC_D17, 59 PD12/FSMC_ALE/FSMC_A17, 60 PD13/FSMC_A18, 61 PD14/FSMC_D0, 62 PD15/FSMC_D1, 63 PC6/DCMI_D0, 64 PC7/DCMI_D1, 65 PC8/DCMI_D2, 66 PC9/DCMI_D3, 67 PA8/USART1_CK, 68 PA9/USART1_TX, 69 PA10/USART1_RX, 70 PA11/USART1_CTS, 71 PA12/USART1_RTS, 72 PA13/JTMS-SWDIO, 73 VCAP_2, 74 VSS, 75 VDD, 76 PA14/JTCK-SWCLK, 77 PA15/JTDI, 78 PC10/DCMI_D8, 79 PC11/DCMI_D4, 80 PC12/DCMI_D9, 81 PD0/FSMC_D2, 82 PD1/FSMC_D3, 83 PD2/DCMI_D11, 84 PD3/FSMC_CLK, 85 PD4/FSMC_NOE, 86 PD5/FSMC_NWE, 87 PD6/FSMC_NWAIT, 88 PD7/FSMC_NE1/FSMC_NE2, 89 PB3/JTDO/TRACESWO, 90 PB4/NJTRST/SPI1_MISO, 91 PB5/DCMI_D10, 92 PB6/DMIC_D5, 93 PB7/FSMC_NL/DCMI_YSYNC, 94 BOOT0, 95 PB8/DCMI_D6, 96 PB9/DCMI_D7, 97 PE0/FSMC_NBL0/DCMI_D2, 98 PE1/FSMC_NBL1/DCMI_D3, 99 VSS, 100 VDD

## SW-2P-6.5M
designator *
footprint SWSW-2P-6.5M
pins: 1, 2

## SY6280
designator *
footprint SOT-25 (SY6280)
pins: 1 OUT, 2 GND, 3 ISET, 4 EN, 5 IN

## TCS1905
designator *
footprint DFNWB2-6L
pins: 1 D1, 2 D2, 3 G, 4 S1, 5 D3, 6 D4, 7 S2, 8 D5

## THM3060
designator *
pins: 2 P10/T (io), 3 P11/T (io), 4 P12 (io), 5 P13 (io), 6 P14 (io), 7 P15 (io), 8 P16 (io), 9 P17 (io), 10 RESET (in), 11 RXD (io), 13 TXD (io), 14 INT0 (io), 15 INT1 (io), 16 T0 (io), 17 T1 (io), 18 ~{WR} (io), 19 ~{RD} (io), 20 X2 (in), 21 X1 (in), 24 P20 (io), 25 P21 (io), 26 P22 (io), 27 P23 (io), 28 P24 (io), 29 P25 (io), 30 P26 (io), 31 P27 (io), 32 PSEN (out), 33 ALE/~{P} (out), 35 ~{EA}/VP (in), 36 P07 (io), 37 P06 (io), 38 P05 (io), 39 P04 (io), 40 P03 (io), 41 P02 (io), 42 P01 (io), 43 P00 (io)

## UG850G
designator *
footprint GL850G (SSOP-28)
pins: 1 AVDD1, 2 DM2, 3 DP2, 4 RREF, 5 AVDD2, 6 XTAL1, 7 XTAL2, 8 DM3, 9 DMP3, 10 AVDD3, 11 DM4, 12 DP4, 13 RESET, 14 TEST, 15 GND, 16 DVDD, 17 PSELF, 18 PGANG, 19 OVCUR2, 20 PWREN2, 21 OVCRU1, 22 PWREN1, 23 V5, 24 V33, 25 DM0, 26 DP0, 27 DM1, 28 DP1

## ULN2803A_SOP18
designator *
footprint ULN2803A (SOP18)
pins: 1 1B, 2 2B, 3 3B, 4 4B, 5 5B, 6 6B, 7 7B, 8 8B, 9 GND, 10 COM, 11 8C, 12 7C, 13 6C, 14 5C, 15 4C, 16 3C, 17 2C, 18 1C

## USB-A8
designator *
footprint USB-A8
pins: 1 VBUS, 2 D-, 3 D+, 4 GND, 5 GND, 6 GND, 7 GND, 8 GND

## USB/OTG
designator *
footprint USB/OTG
pins: 1, 2, 3, 4, 5, 6, 7, 8, 9

## W25Q64
designator *
footprint SOP8W
pins: 1 CS, 2 SO, 3 WP, 4 GND, 5 SI, 6 CLK, 7 HOLD, 8 VCC

## XC6219B33AMR
designator *
footprint XC6219B33AMR
pins: 1 VIN, 2 GND, 3 EN, 4 NC, 5 VOUT

## XTAL
designator *
footprint XTAL8M
footprint XTAL32.728Khz
pins: 1 OSC1, 2 OSC2

## XTAL_12M
designator *
footprint XTAL3225
pins: 1 OSC1, 2, 3 OSC2

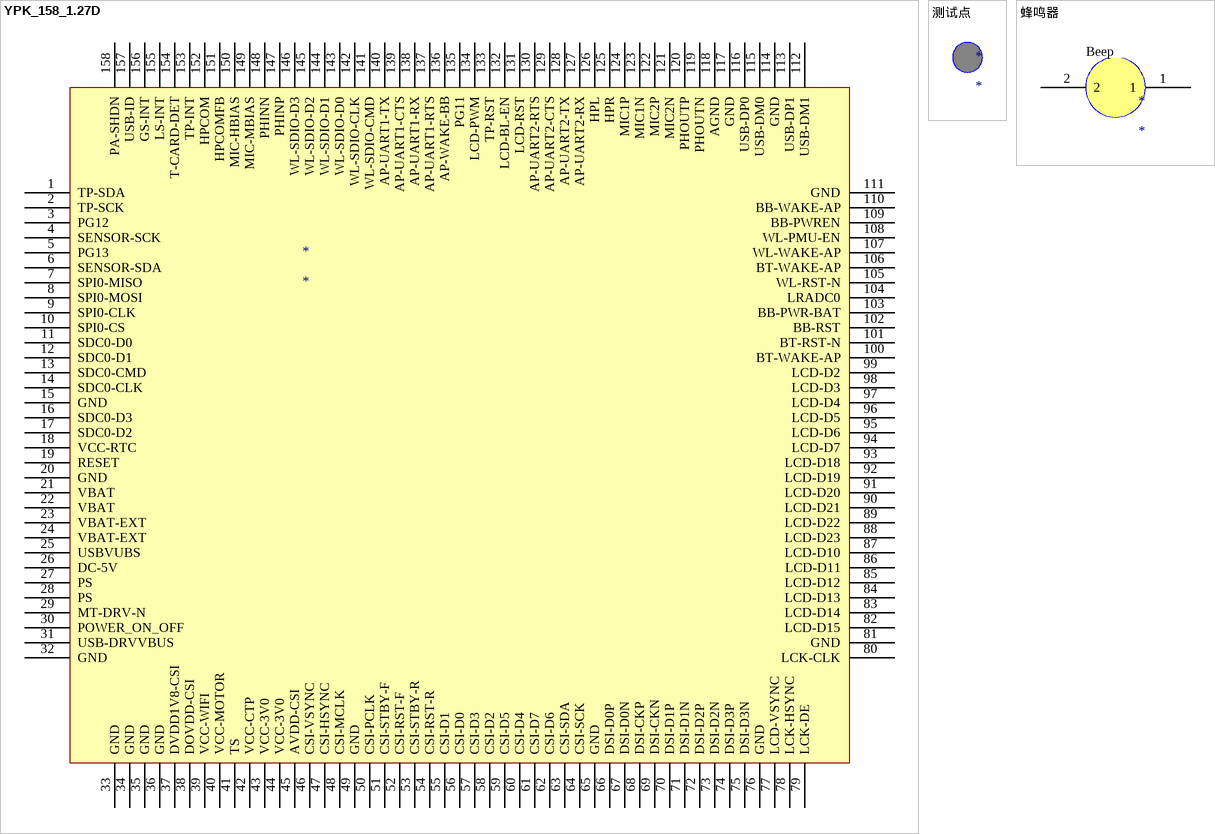
[diagram p6: symbols YPK_158_1.27D to 蜂鸣器]

## YPK_158_1.27D
designator *
footprint YPK_158_1.27D (A33_core)
footprint A33Core_Board
pins: 1 TP-SDA, 2 TP-SCK, 3 PG12, 4 SENSOR-SCK, 5 PG13, 6 SENSOR-SDA, 7 SPI0-MISO, 8 SPI0-MOSI, 9 SPI0-CLK, 10 SPI0-CS, 11 SDC0-D0, 12 SDC0-D1, 13 SDC0-CMD, 14 SDC0-CLK, 15 GND, 16 SDC0-D3, 17 SDC0-D2, 18 VCC-RTC, 19 RESET, 20 GND, 21 VBAT, 22 VBAT, 23 VBAT-EXT, 24 VBAT-EXT, 25 USBVUBS, 26 DC-5V, 27 PS, 28 PS, 29 MT-DRV-N, 30 POWER_ON_OFF, 31 USB-DRVVBUS, 32 GND, 33 GND, 34 GND, 35 GND, 36 GND, 37 DVDD1V8-CSI, 38 DOVDD-CSI, 39 VCC-WIFI, 40 VCC-MOTOR, 41 TS, 42 VCC-CTP, 43 VCC-3V0, 44 VCC-3V0, 45 AVDD-CSI, 46 CSI-VSYNC, 47 CSI-HSYNC, 48 CSI-MCLK, 49 GND, 50 CSI-PCLK, 51 CSI-STBY-F, 52 CSI-RST-F, 53 CSI-STBY-R, 54 CSI-RST-R, 55 CSI-D1, 56 CSI-D0, 57 CSI-D3, 58 CSI-D2, 59 CSI-D5, 60 CSI-D4, 61 CSI-D7, 62 CSI-D6, 63 CSI-SDA, 64 CSI-SCK, 65 GND, 66 DSI-D0P, 67 DSI-D0N, 68 DSI-CKP, 69 DSI-CKN, 70 DSI-D1P, 71 DSI-D1N, 72 DSI-D2P, 73 DSI-D2N, 74 DSI-D3P, 75 DSI-D3N, 76 GND, 77 LCD-VSYNC, 78 LCK-HSYNC, 79 LCK-DE, 80 LCK-CLK, 81 GND, 82 LCD-D15, 83 LCD-D14, 84 LCD-D13, 85 LCD-D12, 86 LCD-D11, 87 LCD-D10, 88 LCD-D23, 89 LCD-D22, 90 LCD-D21, 91 LCD-D20, 92 LCD-D19, 93 LCD-D18, 94 LCD-D7, 95 LCD-D6, 96 LCD-D5, 97 LCD-D4, 98 LCD-D3, 99 LCD-D2, 100 BT-WAKE-AP, 101 BT-RST-N, 102 BB-RST, 103 BB-PWR-BAT, 104 LRADC0, 105 WL-RST-N, 106 BT-WAKE-AP, 107 WL-WAKE-AP, 108 WL-PMU-EN, 109 BB-PWREN, 110 BB-WAKE-AP, 111 GND, 112 USB-DM1, 113 USB-DP1, 114 GND, 115 USB-DM0, 116 USB-DP0, 117 GND, 118 AGND, 119 PHOUTN, 120 PHOUTP, 121 MIC2N, 122 MIC2P, 123 MIC1N, 124 MIC1P, 125 HPR, 126 HPL, 127 AP-UART2-RX, 128 AP-UART2-TX, 129 AP-UART2-CTS, 130 AP-UART2-RTS, 131 LCD-RST, 132 LCD-BL-EN, 133 TP-RST, 134 LCD-PWM, 135 PG11, 136 AP-WAKE-BB, 137 AP-UART1-RTS, 138 AP-UART1-RX, 139 AP-UART1-CTS, 140 AP-UART1-TX, 141 WL-SDIO-CMD, 142 WL-SDIO-CLK, 143 WL-SDIO-D0, 144 WL-SDIO-D1, 145 WL-SDIO-D2, 146 WL-SDIO-D3, 147 PHINP, 148 PHINN, 149 MIC-MBIAS, 150 MIC-HBIAS, 151 HPCOMFB, 152 HPCOM, 153 TP-INT, 154 T-CARD-DET, 155 LS-INT, 156 GS-INT, 157 USB-ID, 158 PA-SHDN

## 测试点
designator *
footprint 测试点

## 蜂鸣器
designator *
footprint Beep
footprint 蜂鸣器
pins: 1, 2
text: Beep